# Altium footprint library Tactile Pushbutton SMD 6x6x10.PcbLib: 1 footprints
Each footprint in its own frame and in the unit in brackets; x right, y up, seen from the top. Pads: shape width x height; smd on the part's side, far side on the other; paste and mask are expansions set on the pad; w line width, h text height; cw(c..) or ccw(c..) is an arc to the next point about the centre after c.
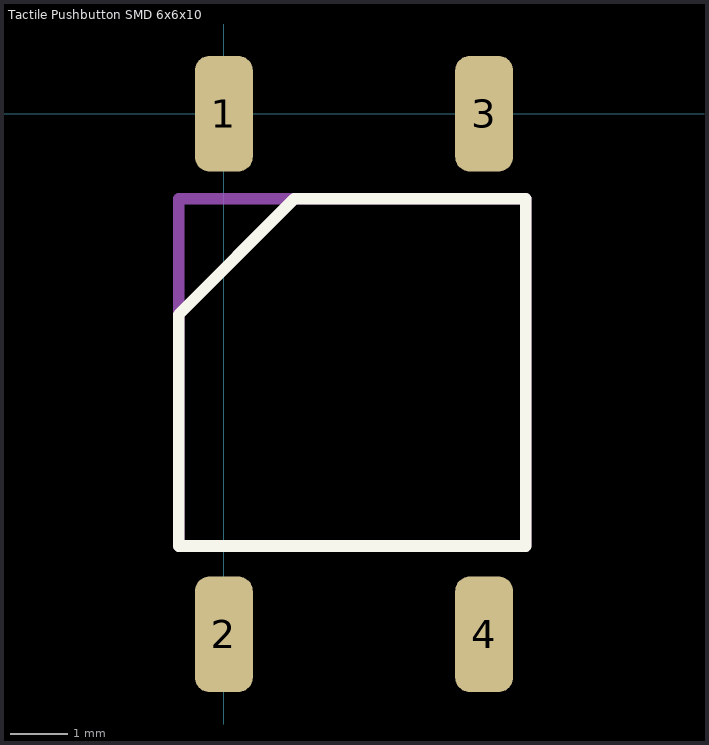
[diagram p0: the footprint, top view; thin cyan lines are the x and y axes]

## Tactile Pushbutton SMD 6x6x10 [mm]
pads (4):
  rrect50% 1x2 smd: 1(0,0) 2(0,-9) 3(4.5,0) 4(4.5,-9)
Top Overlay:
  lines w0.2: -0.782,-7.473 -0.782,-3.473 1.218,-1.473 5.218,-1.473 5.218,-7.473 -0.782,-7.473
Mechanical 14:
  lines w0.2: -0.782,-7.473 5.218,-7.473 5.218,-1.473 -0.782,-1.473 -0.782,-7.473
  text "*" at 1.743,-5.898 h2
3D body "button.SLDPRT": height 9.5, standoff 0, extent -0.75,-9.5 5.25,0.5